# Altium schematic symbol library FMC_SDR_XFE.SCHLIB: 32 symbols
Pins are listed as number, name and electrical type; pins without a type are passive.

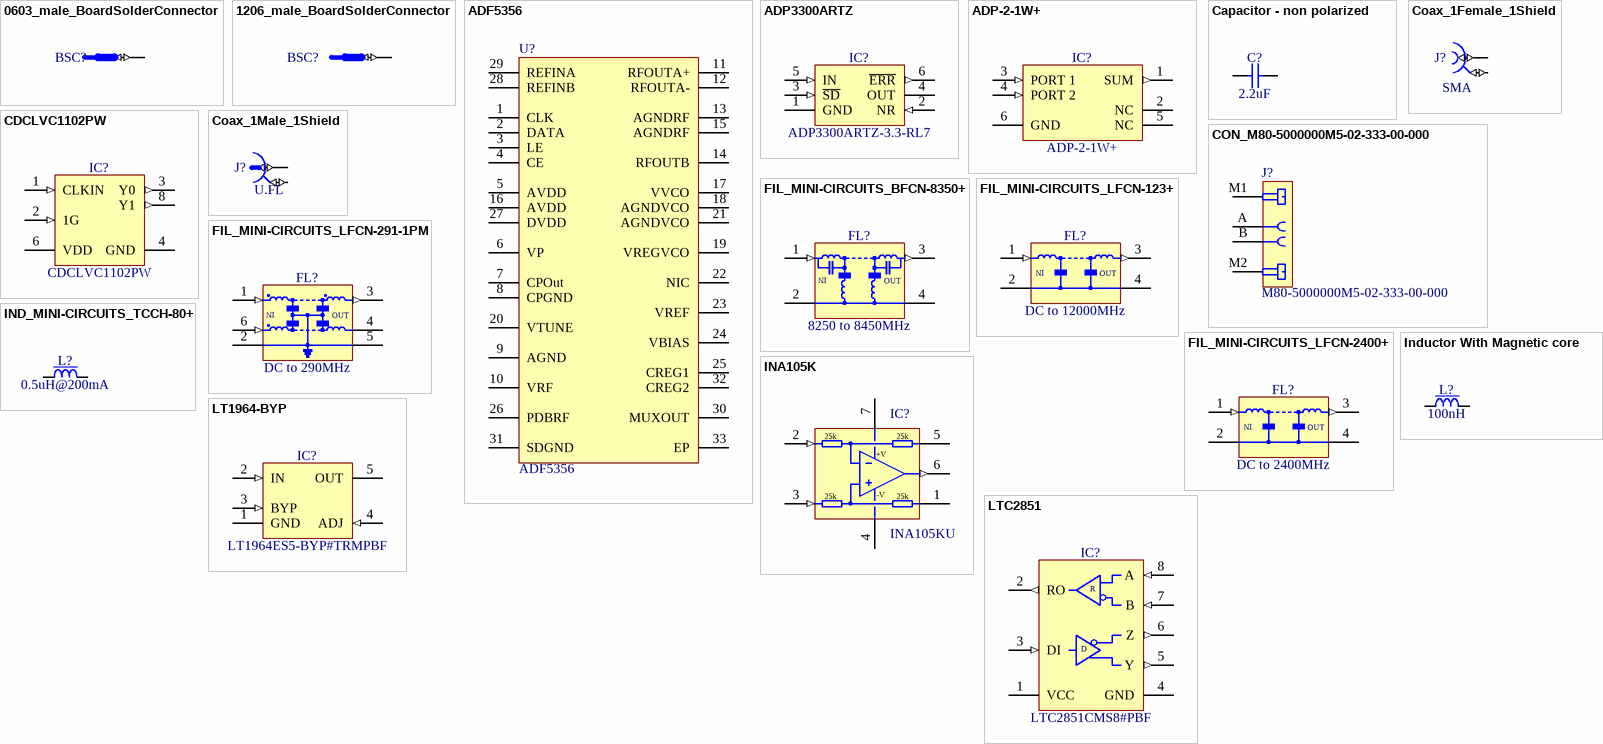
[diagram p0: symbols 0603_male_BoardSolderConnector to LTC2851]

## 0603_male_BoardSolderConnector
designator BSC?, comment 06031206 Male  (value not drawn)
Part Description: Board connection - soldered 0603 jumper; PressFit: No; System: Connector; Pin Count: 1; Socket: No; SMD: Yes; Sense: No; Status: None
footprint PCB_CONN_0603M (Colder connection between boards - by 0603 0R jumper)
pins: 1 (io)

## 1206_male_BoardSolderConnector
designator BSC?, comment 1206 Male  (value not drawn)
Part Description: Board connection - soldered 1206 jumper; PressFit: No; System: Connector; Pin Count: 1; Socket: No; SMD: Yes; Sense: No; Status: None
footprint PCB_CONN_1206M (Colder connection between boards - by 1206 0R jumper)
pins: 1 (io)

## ADF5356
designator U?
footprint ADF3356 (QFN, 32-Leads, Body 5,00x5,00mm, Pitch 0,50mm, Thermal Pad 3,65x3,65mm, IPC Low Density)
pins: 1 CLK, 2 DATA, 3 LE, 4 CE, 5 AVDD, 6 VP, 7 CPOut, 8 CPGND, 9 AGND, 10 VRF, 11 RFOUTA+, 12 RFOUTA-, 13 AGNDRF, 14 RFOUTB, 15 AGNDRF, 16 AVDD, 17 VVCO, 18 AGNDVCO, 19 VREGVCO, 20 VTUNE, 21 AGNDVCO, 22 NIC, 23 VREF, 24 VBIAS, 25 CREG1, 26 PDBRF, 27 DVDD, 28 REFINB, 29 REFINA, 30 MUXOUT, 31 SDGND, 32 CREG2, 33 EP

## ADP3300ARTZ
designator IC?, comment ADP3300ARTZ-3.3-RL7
High Accuracy anyCAP® 50 mA Low Dropout Linear Regulator; Part Description: 3.3V High Accuracy anyCAP® 50 Ma Low Dropout Linear Regulator; Manufacturer: ANALOG DEVICES; PressFit: No; Bonding: No; Part Number: ADP3300ARTZ-3.3-RL7; Component Kind: Standard; Component Type: Standard; Device: ADP3300ARTZ-3.3-RL7; Footprint: SOT95P280X145-6N; PackageDescription: SOT23, 0.95mm pitch; 6 pin, 1.6mm W X 2.9mm L X 1.45mm H body, IPC Medium Density; Manufacturer Part Number: ADP3300ARTZ-3.3-RL7; Pin Count: 6; Case: SOT23-6; Mounted: Yes; Socket: No; SMD: Yes; Sense: No; ComponentHeight: 1.45mm; HelpURL: \\cern.ch\dfs\Applications\Altium\Datasheets\ADP3300ARTZ-3.3-RL7.pdf; Author: CERN DEM JLC; CreateDate: 30.11.2011; LatestRevisionDate: 30.11.2011
footprint SOT95P280X145-6N
pins: 1 GND (power), 2 NR (in), 3 ~{SD} (in), 4 OUT (power), 5 IN (in), 6 ~{ERR} (out)

## ADP-2-1W+
designator IC?
2 Way-0° 50 OHM 1 to 650MHz Power Splitter/Combiner; Part Description: 2 Way-0°, 50 Ohms, 1 to 650MHz, Power Splitter/Combiner; Manufacturer: MINI-CIRCUITS; PressFit: No; Bonding: No; Part Number: ADP-2-1W+; Component Kind: Standard; Component Type: Standard; Device: ADP-2-1W+; Footprint: MINI-CIRCUITS_CD636; PackageDescription: MINI-CIRCUITS CD636 Case, 2.54mm pitch; 6 pin, 5.59mm W X 7.87mm L; Manufacturer Part Number: ADP-2-1W+; Pin Count: 6; Mounted: Yes; Socket: No; SMD: Yes; Sense: No; ComponentHeight: 4.11mm; Author: CERN DEM JLC; HelpURL: \\cern.ch\dfs\Applications\Altium\Datasheets\ADP-2-1W+.pdf; CreateDate: 17.07.2014; LatestRevisionDate: 17.07.2014
footprint MINI-CIRCUITS_CD636
pins: 1 SUM (out), 2 NC, 3 PORT 1 (in), 4 PORT 2 (in), 5 NC, 6 GND (power)

## Capacitor - non polarized
designator C?, comment 2.2uF
Non-polarised capacitor; Part Number: CC1206_2.2UF_50V_10%_X7R; Part Description: SMD Multilayer Chip Ceramic Capacitor; Manufacturer: GENERIC; Manufacturer1 Part Number: C1206C225K5RACTU; Voltage: 50V; TC: X7R; Tolerance: ±10%; Component Kind: Standard; Component Type: Standard; Footprint: CAPC3216X180N; Pin Count: 2; Value: 2.2uF; Status: Preferred; Manufacturer Part Number: CC1206_2.2uF_50V_10%_X7R; Case: 1206; Mounted: Yes; Socket: No; SMD: Yes; Sense: No; Manufacturer1 Example: KEMET; Manufacturer1 ComponentHeight: 1.8mm; HelpURL: \\cern.ch\dfs\Applications\Altium\Datasheets\CC1206_X7R_KEMET.pdf; Author: CERN DEM MR; CreateDate: 06.06.2016; LatestRevisionDate: 06.06.2016
footprint CAPC3216X180N
pins: 1, 2

## CDCLVC1102PW
designator IC?
3.3 V and 2.5 V LVCMOS 1:2  High-Performance Clock Buffer; Manufacturer: TEXAS INSTRUMENTS; PressFit: No; Bonding: No; Part Number: CDCLVC1102PW; Component Kind: Standard; Component Type: Standard; Device: CDCLVC1102PW; Footprint: SOP65P640X120-8N; PackageDescription: SOP, 0.65mm pitch; 8 pin, 4.40mm W X 3.00mm L X 1.20mm H body, IPC Medium Density; Part Description: 3.3 V and 2.5 V LVCMOS 1:2 High-Performance Clock Buffer; Manufacturer Part Number: CDCLVC1102PW; Pin Count: 8; Case: TSSOP8; Mounted: Yes; Socket: No; SMD: Yes; Sense: No; ComponentHeight: 1.2mm; HelpURL: \\cern.ch\dfs\Applications\Altium\Datasheets\CDCLVC1102PW.pdf; Author: CERN DEM JLC; CreateDate: 28.02.2011; LatestRevisionDate: 28.02.2011
footprint SOP65P640X120-8N
pins: 1 CLKIN (in), 2 1G (in), 3 Y0 (out), 4 GND (power), 6 VDD (power), 8 Y1 (out)

## Coax_1Female_1Shield
designator J?, comment SMA
Part Number: TELEGARTNER_J01151A0451; Part Description: SMA 50 ohms Edge Mount Bulkhead Jack Receptacle; Manufacturer: TELEGARTNER; Manufacturer Part Number: J01151A0451; PressFit: No; Component Kind: Standard; Component Type: Standard; Footprint: TELEGARTNER_J01151A0451; Pin Count: 2; Family: SMA; Mounted: Yes; Socket: No; SMD: No; Sense: No; Status: None; ComponentHeight: 7mm; HelpURL: \\cern.ch\dfs\Applications\Altium\Datasheets\TELEGARTNER_J01151A0451.pdf; Author: CERN DEM JLC; CreateDate: 27/10/2016; LatestRevisionDate: 27/10/2016
footprint TELEGARTNER_J01151A0451
pins: 1 (io), 2 (io)

## Coax_1Male_1Shield
designator J?, comment U.FL
Part Number: HIROSE_U.FL-R-SMT-1(10); Part Description: Up to 6GHz Ultra Small Surface Mount Male Coaxial Connectors U.FL Series; Manufacturer: HIROSE (HRS); Manufacturer Part Number: U.FL-R-SMT-1(10); PressFit: No; Component Kind: Standard; Component Type: Standard; Footprint: HIROSE_U.FL-R-SMT-1(10); Pin Count: 2; Family: U.FL; Mounted: Yes; Socket: No; SMD: Yes; Sense: No; Status: None; ComponentHeight: 1.25mm; HelpURL: \\cern.ch\dfs\Applications\Altium\Datasheets\HIROSE_U.FL-R-SMT-1(10).pdf; Author: CERN DEM JLC; CreateDate: 24.03.2010; LatestRevisionDate: 24.03.2010
footprint HIROSE_U.FL-R-SMT-1(10)
pins: 1 (io), 2 (io)

## CON_M80-5000000M5-02-333-00-000
designator J?, comment M80-5000000M5-02-333-00-000
2pin (2 power), THT socket with M2 jackscrews; Manufacturer: Harwin; Part Number: M80-5L10405M5-02-333-00-000; Bonding: No; ComponentHeigth: 6.05mm; PressFit: No; Case: M80-5000000M5-02-333-00-000; Component Kind: Standard; Component Type: Standard; CreateDate: 2018-06-18; Device: M80-5000000M5-02-333-00-000; Footprint: M80-5000000M5-02-333-00-000; HelpURL: https://www.harwin.com/products/M80-5000000M5-02-333-00-000/; LatestRevisionDate: 2018-06-18; Manufacturer Part Number: M80-5000000M5-02-333-00-000; Mounted: Yes; PackageDescription: H=6.05mm, W=18mm, D=8.6mm; Part Description: 2pin (2 power), THT socket with M2 jackscrews; Pin Count: 6; Sense: No; SMD: No; Socket: No; Value: *
footprint M80-5000000M5-02-333-00-000 (2pin (2 power), THT socket with M2 jackscrews (H=6.05mm, W=18mm, D=8.6mm))
footprint M80-5000000M5-02-333-00-000 (2pin (2 power), THT socket with M2 jackscrews (H=6.05mm, W=18mm, D=8.6mm))
pins: A, B, M1, M2

## FIL_MINI-CIRCUITS_BFCN-8350+
designator FL?, comment 8250 to 8450MHz
50 Ohm 8250 to 8450MHz Band Pass Filter; Part Number: FIL_MINI-CIRCUITS_BFCN-8350+; Part Description: 50 Ohm Band Pass Filter; Manufacturer: MINI-CIRCUITS; Manufacturer Part Number: BFCN-8350+; Component Kind: Standard; Component Type: Standard; Footprint: FIL_MINI-CIRCUITS_FV1206-4; Pin Count: 4; Value: 8250 to 8450MHz; Status: None; Mounted: Yes; Socket: No; SMD: Yes; Sense: No; ComponentHeight: 1.04mm; HelpURL: \\cern.ch\dfs\Applications\Altium\Datasheets\FIL_MINI-CIRCUITS_BFCN-8350+.pdf; Author: CERN DEM MR; CreateDate: 05.04.2019; LatestRevisionDate: 05.04.2019
footprint FIL_MINI-CIRCUITS_FV1206-4
pins: 1 RFIN (in), 2 GND (power), 3 RFOUT (out), 4 GND (power)
text: IN; OUT

## FIL_MINI-CIRCUITS_LFCN-123+
designator FL?, comment DC to 12000MHz
50 Ohm DC to 12000MHz Low Pass Filter; Part Number: FIL_MINI-CIRCUITS_LFCN-123+; Part Description: 50 Ohm Low Pass Filter; Manufacturer: MINI-CIRCUITS; Manufacturer Part Number: LFCN-123+; Component Kind: Standard; Component Type: Standard; Footprint: FIL_MINI-CIRCUITS_FV1206-4; Pin Count: 2; Value: DC to 12000MHz; Status: None; Mounted: Yes; Socket: No; SMD: Yes; Sense: No; ComponentHeight: 1.04mm; HelpURL: \\cern.ch\dfs\Applications\Altium\Datasheets\FIL_MINI-CIRCUITS_LFCN-123+.pdf; Author: CERN DEM JLC; CreateDate: 20.04.2015; LatestRevisionDate: 20.04.2015
footprint FIL_MINI-CIRCUITS_FV1206-4
pins: 1 RFIN (in), 2 GND (power), 3 RFOUT (out), 4 GND (power)
text: IN; OUT

## FIL_MINI-CIRCUITS_LFCN-291-1PM
designator FL?, comment DC to 290MHz
50 Ohm DC to 290MHz Dual Low Pass Filter; Part Number: FIL_MINI-CIRCUITS_LFCN-291-1PM+; Part Description: 50 Ohm Dual Low Pass Filter; Manufacturer: MINI-CIRCUITS; Manufacturer Part Number: LFCN-291-1PM+; Component Kind: Standard; Component Type: Standard; Footprint: FIL_MINI-CIRCUITS_FV1206-1; Pin Count: 2; Value: DC to 290MHz; Status: None; Mounted: Yes; Socket: No; SMD: Yes; Sense: No; ComponentHeight: 0.89mm; HelpURL: \\cern.ch\dfs\Applications\Altium\Datasheets\FIL_MINI-CIRCUITS_LFCN-291-1PM+.pdf; Author: CERN DEM JLC; CreateDate: 29.03.2018; LatestRevisionDate: 29.03.2018
footprint FIL_MINI-CIRCUITS_FV1206-1
pins: 1 RFIN (in), 2 GND (power), 3 RFOUT (out), 4 GND (power), 5 GND (power), 6 RFIN (in)
text: IN; OUT

## FIL_MINI-CIRCUITS_LFCN-2400+
designator FL?, comment DC to 2400MHz
50 Ohm DC to 2400MHz Low Pass Filter; Part Number: FIL_MINI-CIRCUITS_LFCN-2400+; Part Description: 50 Ohm Low Pass Filter; Manufacturer: MINI-CIRCUITS; Manufacturer Part Number: LFCN-2400+; Component Kind: Standard; Component Type: Standard; Footprint: FIL_MINI-CIRCUITS_FV1206; Pin Count: 4; Value: DC to 2400MHz; Status: None; Mounted: Yes; Socket: No; SMD: Yes; Sense: No; ComponentHeight: 0.94mm; HelpURL: \\cern.ch\dfs\Applications\Altium\Datasheets\FIL_MINI-CIRCUITS_LFCN-2400+.pdf; Author: CERN DEM MR; CreateDate: 05.04.2019; LatestRevisionDate: 05.04.2019
footprint FIL_MINI-CIRCUITS_FV1206
pins: 1 RFIN (in), 2 GND (power), 3 RFOUT (out), 4 GND (power)
text: IN; OUT

## INA105K
designator IC?, comment INA105KU
Precision, Unity-Gain Differential Amplifier; Manufacturer: TEXAS INSTRUMENTS; PressFit: No; Bonding: No; Part Number: INA105KU; Component Kind: Standard; Component Type: Standard; Device: INA105KU; Footprint: SOIC127P600X175-8N; PackageDescription: SOIC 8, Pitch 1.27mm, Body 4x5mm, IPC Medium Density; Part Description: Precision, Unity-Gain Differential Amplifier; Manufacturer Part Number: INA105KU; Pin Count: 7; Case: SOIC8; Mounted: Yes; Socket: No; SMD: Yes; Sense: No; ComponentHeight: 1.75mm; Author: CERN DEM JLC; HelpURL: \\cern.ch\dfs\Applications\Altium\Datasheets\INA105KU.pdf; CreateDate: 07.01.2008; LatestRevisionDate: 07.01.2008
footprint SOIC127P600X175-8N
pins: 1 REF, 2 IN- (in), 3 IN+ (in), 4 -VEE (power), 5 SENS, 6 OUT (out), 7 +VCC (power)
1 alternate drawing of the same symbol
text: 25k; +V; -V

## IND_MINI-CIRCUITS_TCCH-80+
designator L?, comment 0.5uH@200mA
50 Ohms, 50 to 8200 MHz RF Choke; Part Number: IND_MINI-CIRCUITS_TCCH-80+; Manufacturer: MINI-CIRCUITS; Manufacturer Part Number: TCCH-80+; Power: 200mA; Resistance: 0.1R; Component Kind: Standard; Component Type: Standard; Footprint: IND_MINI-CIRCUITS_GU1604; Pin Count: 4; Value: 0.5uH@200mA; Status: None; Part Description: 50 Ohms, 50 to 8200 MHz RF Choke; Mounted: Yes; Socket: No; SMD: Yes; Sense: No; ComponentHeight: 3.81mm; HelpURL: \\cern.ch\dfs\Applications\Altium\Datasheets\IND_MINI-CIRCUITS_TCCH-80+.pdf; Author: CERN DEM JLC; CreateDate: 19.12.2011; LatestRevisionDate: 19.12.2011
footprint IND_MINI-CIRCUITS_GU1604
pins: 1, 3

## Inductor With Magnetic core
designator L?, comment 100nH
Inductor With Core; Part Number: IND0603_100NH_2%_COILCRAFT_0603HP-R10XGLU; Part Description: Ceramic Chip Inductor; Manufacturer: COILCRAFT; Manufacturer Part Number: 0603HP-R10XGLU; Power: 470mA; Resistance: 0.54R; Tolerance: ±2%; Component Kind: Standard; Component Type: Standard; Footprint: IND_COILCRAFT_0603HP; Pin Count: 2; Value: 100nH; Status: None; Case: 0603; Mounted: Yes; Socket: No; SMD: Yes; Sense: No; ComponentHeight: 0.94mm; HelpURL: \\cern.ch\dfs\Applications\Altium\Datasheets\IND0603_COILCRAFT_0603HP.pdf; Author: CERN DEM JLC; CreateDate: 09.02.2017; LatestRevisionDate: 09.02.2017
footprint IND_COILCRAFT_0603HP
pins: 1, 2

## LT1964-BYP
designator IC?, comment LT1964ES5-BYP#TRMPBF
200mA, Low Noise, Low Dropout Negative Micropower Regulator; Part Description: -1.22V to -20V, 200mA, Low Noise, Low Dropout Negative Micropower Regulator; Manufacturer: LINEAR TECHNOLOGY; PressFit: No; Bonding: No; Part Number: LT1964ES5-BYP#TRMPBF; Component Kind: Standard; Component Type: Standard; Device: LT1964ES5-BYP#TRMPBF; Footprint: SOT95P280X100-5N; PackageDescription: SOT23, 0.95mm pitch; 5 pin, 1.75mm W X 3.00mm L, IPC Medium Density; Manufacturer Part Number: LT1964ES5-BYP#TRMPBF; Pin Count: 5; Case: SOT23-5; Mounted: Yes; Socket: No; SMD: Yes; Sense: No; ComponentHeight: 1mm; HelpURL: \\cern.ch\dfs\Applications\Altium\Datasheets\LT1964ES5-BYP#TRMPBF.pdf; Author: CERN DEM MR; CreateDate: 17.02.2016; LatestRevisionDate: 17.02.2016
footprint SOT95P280X100-5N
pins: 1 GND (power), 2 IN (in), 3 BYP (in), 4 ADJ (in), 5 OUT (power)

## LTC2851
designator IC?, comment LTC2851CMS8#PBF
3.3V 20Mbps RS485/RS422 Transceivers; Manufacturer: LINEAR TECHNOLOGY; PressFit: No; Bonding: No; Part Number: LTC2851CMS8#PBF; Component Kind: Standard; Component Type: Standard; Device: LTC2851CMS8#PBF; Footprint: SOP65P490X110-8N; PackageDescription: SOP, 0.65mm pitch; 8 pin, 3.00mm W X 3.00mm L X 1.10mm H body, IPC Medium Density; Part Description: 3.3V 20Mbps RS485/RS422 Transceivers; Manufacturer Part Number: LTC2851CMS8#PBF; Pin Count: 8; Case: MSOP8; Mounted: Yes; Socket: No; SMD: Yes; Sense: No; ComponentHeight: 1.1mm; HelpURL: \\cern.ch\dfs\Applications\Altium\Datasheets\LTC2851CMS8#PBF.pdf; Author: CERN DEM JLC; CreateDate: 14.12.2010; LatestRevisionDate: 14.12.2010
footprint SOP65P490X110-8N
pins: 1 VCC (power), 2 RO (out), 3 DI (in), 4 GND (power), 5 Y (out), 6 Z (out), 7 B (in), 8 A (in)
text: R; D

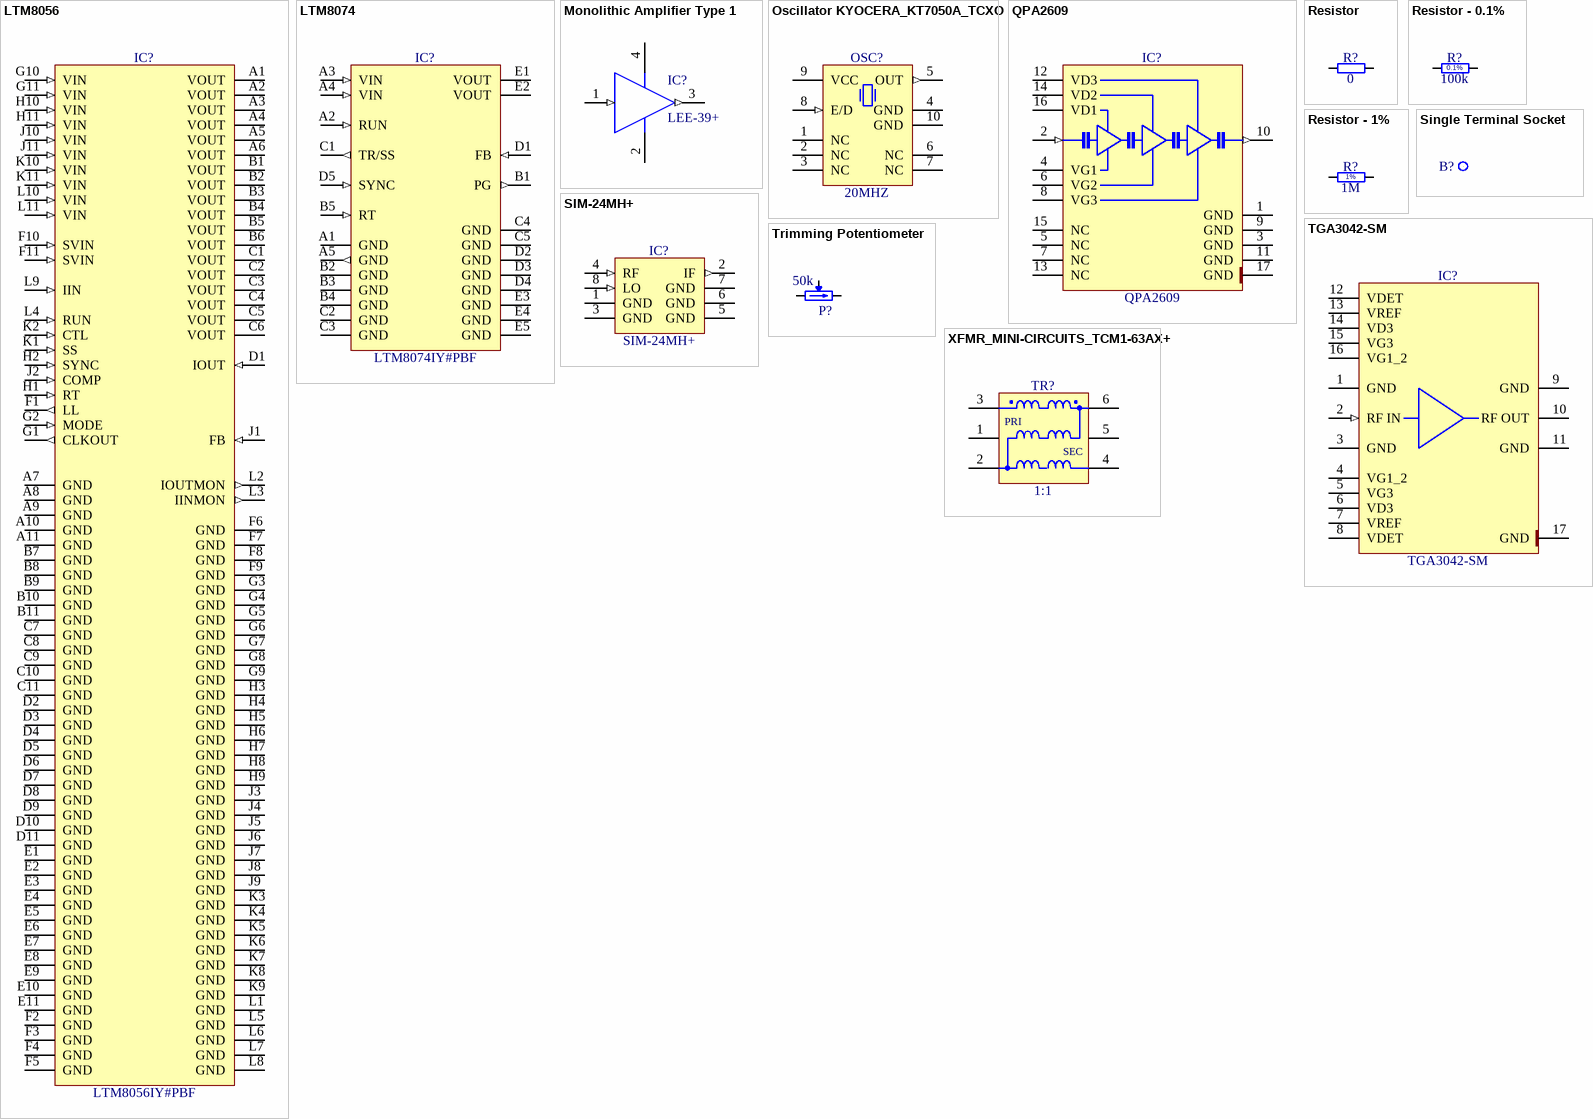
[diagram p1: symbols LTM8056 to XFMR_MINI-CIRCUITS_TCM1-63AX+]

## LTM8056
designator IC?, comment LTM8056IY#PBF
58VIN, 48VOUT Buck-Boost µModule Regulator; Manufacturer: LINEAR TECHNOLOGY; PressFit: No; Bonding: No; Part Number: LTM8056IY#PBF; Component Kind: Standard; Component Type: Standard; Device: LTM8056IY#PBF; Footprint: BGA121C127P11X11_1500X1500X512; PackageDescription: BGA,1.27mm Pitch, Square;121 Pin, 11 Columns X 11 Rows, 15.00mm X 15.00mm X 5.12mm H; Part Description: 58VIN, 48VOUT Buck-Boost µModule Regulator; Manufacturer Part Number: LTM8056IY#PBF; Pin Count: 121; Case: BGA121; Mounted: Yes; Socket: No; SMD: Yes; Sense: No; ComponentHeight: 5.12mm; HelpURL: \\cern.ch\dfs\Applications\Altium\Datasheets\LTM8056IY#PBF.pdf; Author: CERN DEM JLC; CreateDate: 08.04.2019; LatestRevisionDate: 08.04.2019
footprint BGA121C127P11X11_1500X1500X512
pins: A1 VOUT (power), A2 VOUT (power), A3 VOUT (power), A4 VOUT (power), A5 VOUT (power), A6 VOUT (power), A7 GND (power), A8 GND (power), A9 GND (power), A10 GND (power), A11 GND (power), B1 VOUT (power), B2 VOUT (power), B3 VOUT (power), B4 VOUT (power), B5 VOUT (power), B6 VOUT (power), B7 GND (power), B8 GND (power), B9 GND (power), B10 GND (power), B11 GND (power), C1 VOUT (power), C2 VOUT (power), C3 VOUT (power), C4 VOUT (power), C5 VOUT (power), C6 VOUT (power), C7 GND (power), C8 GND (power), C9 GND (power), C10 GND (power), C11 GND (power), D1 IOUT (in), D2 GND (power), D3 GND (power), D4 GND (power), D5 GND (power), D6 GND (power), D7 GND (power), D8 GND (power), D9 GND (power), D10 GND (power), D11 GND (power), E1 GND (power), E2 GND (power), E3 GND (power), E4 GND (power), E5 GND (power), E6 GND (power), E7 GND (power), E8 GND (power), E9 GND (power), E10 GND (power), E11 GND (power), F1 LL (out), F2 GND (power), F3 GND (power), F4 GND (power), F5 GND (power), F6 GND (power), F7 GND (power), F8 GND (power), F9 GND (power), F10 SVIN (in), F11 SVIN (in), G1 CLKOUT (out), G2 MODE (in), G3 GND (power), G4 GND (power), G5 GND (power), G6 GND (power), G7 GND (power), G8 GND (power), G9 GND (power), G10 VIN (in), G11 VIN (in), H1 RT (in), H2 SYNC (in), H3 GND (power), H4 GND (power), H5 GND (power), H6 GND (power), H7 GND (power), H8 GND (power), H9 GND (power), H10 VIN (in), H11 VIN (in), J1 FB (in), J2 COMP (in), J3 GND (power), J4 GND (power), J5 GND (power), J6 GND (power), J7 GND (power), J8 GND (power), J9 GND (power), J10 VIN (in), J11 VIN (in), K1 SS (in), K2 CTL (in), K3 GND (power), K4 GND (power), K5 GND (power), K6 GND (power), K7 GND (power), K8 GND (power), K9 GND (power), K10 VIN (in), K11 VIN (in), L1 GND (power), L2 IOUTMON (out), L3 IINMON (out), L4 RUN (in), L5 GND (power), L6 GND (power), L7 GND (power), L8 GND (power), L9 IIN (in), L10 VIN (in), L11 VIN (in)

## LTM8074
designator IC?, comment LTM8074IY#PBF
40VIN, 1.2A Silent Switcher µModule Regulator; Manufacturer: LINEAR TECHNOLOGY; PressFit: No; Bonding: No; Part Number: LTM8074IY#PBF; Component Kind: Standard; Component Type: Standard; Device: LTM8074IY#PBF; Footprint: BGA25C65P5X5_400X400X198; PackageDescription: BGA, 0.65mm Pitch, Square; 25 Pin, 5 Columns X 5 Rows, 4.00mm X 4.00mm X 1.98mm H; Part Description: 40VIN, 1.2A Silent Switcher µModule Regulator; Manufacturer Part Number: LTM8074IY#PBF; Pin Count: 25; Case: BGA25; Mounted: Yes; Socket: No; SMD: Yes; Sense: No; ComponentHeight: 1.98mm; HelpURL: \\cern.ch\dfs\Applications\Altium\Datasheets\LTM8074IY#PBF.pdf; Author: CERN DEM JLC; CreateDate: 08.04.2019; LatestRevisionDate: 08.04.2019
footprint BGA25C65P5X5_400X400X198
pins: A1 GND (power), A2 RUN (in), A3 VIN (in), A4 VIN (in), A5 GND (out), B1 PG (out), B2 GND (power), B3 GND (power), B4 GND (power), B5 RT (in), C1 TR/SS (out), C2 GND (power), C3 GND (power), C4 GND (power), C5 GND (power), D1 FB (in), D2 GND (power), D3 GND (power), D4 GND (power), D5 SYNC (in), E1 VOUT (power), E2 VOUT (power), E3 GND (power), E4 GND (power), E5 GND (power)

## Monolithic Amplifier Type 1
designator IC?, comment LEE-39+
Monolithic Amplifier; Part Description: DC-8GHz Monolithic Amplifier; Manufacturer: MINI-CIRCUITS; PressFit: No; Bonding: No; Part Number: LEE-39+; Component Kind: Standard; Component Type: Standard; Device: LEE-39+; Footprint: MINI-CIRCUITS_FG873; PackageDescription: MINI-CIRCUITS FG873 Case, 4 pin, 3.0mm W X 3.0mm L; Manufacturer Part Number: LEE-39+; Pin Count: 4; Mounted: Yes; Socket: No; SMD: Yes; Sense: No; ComponentHeight: 0.89mm; Author: CERN DEM JLC; HelpURL: \\cern.ch\dfs\Applications\Altium\Datasheets\LEE-39+.pdf; ComponentLink1URL: \\cern.ch\dfs\Applications\Altium\Datasheets\LEE-39+_Package-Drawing.pdf; ComponentLink1Description: Package Drawing; CreateDate: 17.01.2017; LatestRevisionDate: 17.01.2017
footprint MINI-CIRCUITS_FG873
pins: 1 RF IN (in), 2 GND (power), 3 RF OUT (out), 4 GND (power)

## Oscillator KYOCERA_KT7050A_TCXO
designator OSC?, comment 20MHZ
Oscillator KYOCERA; Part Number: OSC_20MHZ_KYOCERA_KT7050A20000KAW33TAD; Part Description: 3.3V, ± 0.28ppm, -40°C ..+85°C, Temperature Compensated Crystal Oscillator (TCXO); Manufacturer Part Number: KT7050A20000KAW33TAD; PressFit: No; Bonding: No; Component Kind: Standard; Component Type: Standard; Footprint: OSC_KYOCERA_KT7050A; PackageDescription: Oscillator KT7050A Series, 10 pins, 5x7mm; Value: 20MHZ; Manufacturer: KYOCERA; Pin Count: 10; Mounted: Yes; Socket: No; SMD: Yes; Sense: No; ComponentHeight: 1.7mm; HelpURL: \\cern.ch\dfs\Applications\Altium\Datasheets\OSC_KYOCERA_KT7050.pdf; Author: CERN DEM MR; CreateDate: 01.12.2017; LatestRevisionDate: 01.12.2017
footprint OSC_KYOCERA_KT7050A
pins: 1 NC, 2 NC, 3 NC, 4 GND (power), 5 OUT (out), 6 NC, 7 NC, 8 E/D (in), 9 VCC (power), 10 GND (power)

## QPA2609
designator IC?
7-14GHz GaAs Low Noise Amplifier; Manufacturer: QORVO; PressFit: No; Bonding: No; Part Number: QPA2609; Component Kind: Standard; Component Type: Standard; Device: QPA2609; Footprint: QORVO_QPA2609; PackageDescription: QFN, 0.50mm Pitch, Square; 16 Pin, 4.00mm L X 4.00mm W X 0.9mm H Body (w/thermal Tab 2.75 X 2.75mm); Part Description: 7-14GHz GaAs Low Noise Amplifier; Manufacturer Part Number: QPA2609; Pin Count: 17; Case: QFN16; Mounted: Yes; Socket: No; SMD: Yes; Sense: No; ComponentHeight: 0.9mm; Author: CERN DEM JLC; HelpURL: \\cern.ch\dfs\Applications\Altium\Datasheets\QPA2609.pdf; CreateDate: 01.04.2019; LatestRevisionDate: 01.04.2019
footprint QORVO_QPA2609
pins: 1 GND (power), 2 RF IN (in), 3 GND (power), 4 VG1 (power), 5 NC, 6 VG2 (power), 7 NC (power), 8 VG3 (power), 9 GND (power), 10 RF OUT (out), 11 GND (power), 12 VD3 (power), 13 NC, 14 VD2 (power), 15 NC, 16 VD1 (power), 17 GND (power)

## Resistor
designator R?, comment 0
Resistor; Part Number: R0603_0R_JUMPER; Part Description: 1A (0.05R Max DC Resistance) Zero Ohm Jumper; Manufacturer: GENERIC; Manufacturer1 Part Number: NRC06Z0; PressFit: No; Component Kind: Standard; Component Type: Standard; Footprint: RESC1608X55N; Pin Count: 2; Value: 0; Status: Preferred; Manufacturer Part Number: R0603_0R_JUMPER; Case: 0603; Mounted: Yes; Sense: No; Socket: No; SMD: Yes; Manufacturer1 Example: NIC COMPONENT; Manufacturer1 ComponentHeight: 0.55mm; HelpURL: \\cern.ch\dfs\Applications\Altium\Datasheets\R0603_NIC_NRC.pdf; Author: CERN DEM JLC; CreateDate: 03.12.2007; LatestRevisionDate: 13.03.2008
footprint RESC1608X55N
pins: 1, 2

## Resistor - 0.1%
designator R?, comment 100k
Resistor - 0.1%; Part Number: R0603_100K_0.1%_0.063W_10PPM; Part Description: Thin Film Chip Resistor; Manufacturer: GENERIC; Manufacturer1 Part Number: RN73C1J100KBTDF; Power: 0.063W; TC: ±10ppm; PressFit: No; Component Kind: Standard; Component Type: Standard; Footprint: RESC1608X55N; Pin Count: 2; Value: 100k; Status: Not Recommended; Tolerance: ±0.1%; Manufacturer Part Number: R0603_100K_0.1%_0.063W_10PPM; Case: 0603; Mounted: Yes; Sense: No; Socket: No; SMD: Yes; Manufacturer1 Example: TYCO HOLSWORTHY; Manufacturer1 ComponentHeight: 0.55mm; HelpURL: \\cern.ch\dfs\Applications\Altium\Datasheets\R0603_Tyco_RN73.pdf; Author: CERN DEM JLC; CreateDate: 03.12.2007; LatestRevisionDate: 13.03.2008
footprint RESC1608X55N
pins: 1, 2
text: 0.1%

## Resistor - 1%
designator R?, comment 1M
Resistor - 1%; Part Number: R0402_1M_1%_0.0625W_100PPM; Part Description: General Purpose Thick Film Chip Resistor; Manufacturer: GENERIC; Manufacturer1 Part Number: 232270671005L; Power: 0.0625W; TC: ±100ppm/°C; PressFit: No; Component Kind: Standard; Component Type: Standard; Footprint: RESC1005X40N; Pin Count: 2; Value: 1M; Status: Not Recommended; Tolerance: ±1%; Manufacturer Part Number: R0402_1M_1%_0.0625W_100PPM; Case: 0402; Mounted: Yes; Sense: No; Socket: No; SMD: Yes; Manufacturer1 Example: YAGEO PHYCOMP; Manufacturer1 ComponentHeight: 0.4mm; HelpURL: \\cern.ch\dfs\Applications\Altium\Datasheets\R0402_Phycomp_RC0402.pdf; Author: CERN DEM JLC; CreateDate: 03.12.2007; LatestRevisionDate: 17.10.2012
footprint RESC1005X40N
pins: 1, 2
text: 1%

## SIM-24MH+
designator IC?
Frequency Mixer - Level 13 (LO Power +13 dBm) 7300 to 20000 MHz; Manufacturer: MINI-CIRCUITS; PressFit: No; Bonding: No; Part Number: SIM-24MH+; Component Kind: Standard; Component Type: Standard; Device: SIM-24MH+; Footprint: MINI-CIRCUITS_HV1195; PackageDescription: MINI-CIRCUITS HV1195 Case, 1.27mm pitch; 8 pin, 4.57mm W X 5.08mm L; Part Description: Frequency Mixer - Level 13 (LO Power +13 dBm) 7300 to 20000MHz; Manufacturer Part Number: SIM-24MH+; Pin Count: 8; Mounted: Yes; Socket: No; SMD: Yes; Sense: No; ComponentHeight: 2.21mm; Author: CERN DEM JLC; HelpURL: \\cern.ch\dfs\Applications\Altium\Datasheets\SIM-24MH+.pdf; CreateDate: 29.10.2014; LatestRevisionDate: 29.10.2014
footprint MINI-CIRCUITS_HV1195
pins: 1 GND (power), 2 IF (out), 3 GND (power), 4 RF (in), 5 GND (power), 6 GND (power), 7 GND (power), 8 LO (in)

## Single Terminal Socket
designator B?, comment Plated Hole  (value not drawn)  (no BOM)
Single Terminal Socket; Part Number: PLATED_HOLE2.4_PAD4.0; Part Description: Plated Through Hole: Hole Dia.=2.4mm Pad Dia.=4.0mm; Mounted: No; Table: Pads; Component Type: Standard (No BOM); Footprint: MTG240_400; Pin Count: 1; Family: Plated Hole; Socket: No; SMD: No; Status: None; ComponentHeight: 0mm; Author: CERN DEM JMW; CreateDate: 2011-10-10; LatestRevisionDate: 2011-10-10; PackageDescription: Plated Through Hole: Hole Dia.=2.4mm Pad Dia.=4.0mm
footprint MTG240_400
pins: 1

## TGA3042-SM
designator IC?
7-10.5GHz 4.5W GaN Power Amplifier; Manufacturer: QORVO; PressFit: No; Bonding: No; Part Number: TGA3042-SM; Component Kind: Standard; Component Type: Standard; Device: TGA3042-SM; Footprint: QORVO_TGA3042-SM; PackageDescription: QFN, 0.566mm Pitch X, 0.525 Pitch Y, Square; 16 Pin, 4.5mm L X 4.5mm W X 1.74mm H Body; Part Description: 7-10.5GHz 4.5W GaN Power Amplifier; Manufacturer Part Number: TGA3042-SM; Pin Count: 17; Case: QFN16; Mounted: Yes; Socket: No; SMD: Yes; Sense: No; ComponentHeight: 1.91mm; Author: CERN DEM JLC; HelpURL: \\cern.ch\dfs\Applications\Altium\Datasheets\TGA3042-SM.pdf; CreateDate: 26.03.2019; LatestRevisionDate: 26.03.2019
footprint QORVO_TGA3042-SM
pins: 1 GND (power), 2 RF IN (in), 3 GND (power), 4 VG1_2 (power), 5 VG3 (power), 6 VD3 (power), 7 VREF (power), 8 VDET (power), 9 GND (power), 10 RF OUT (power), 11 GND (power), 12 VDET (power), 13 VREF (power), 14 VD3 (power), 15 VG3 (power), 16 VG1_2 (power), 17 GND (power)

## Trimming Potentiometer
designator P?, comment 50k
Trimming Potentiometer; Part Number: TRIM_11T_50K_BOURNS_3223W-1-503E; Part Description: 11 Turns SMD Trimpot® Trimming Potentiometer (Top Adjust); Manufacturer: BOURNS; Manufacturer Part Number: 3223W-1-503E; Power: 0.125W; TC: ±100ppm/°C; Tolerance: ±20%; PressFit: No; Component Kind: Standard; Component Type: Standard; Footprint: TRIM_BOURNS_3223W; Pin Count: 3; Value: 50k; Case: 3223W; Mounted: Yes; Socket: No; SMD: Yes; Sense: No; ComponentHeight: 4.16mm; HelpURL: \\cern.ch\dfs\Applications\Altium\Datasheets\TRIM_BOURNS_3223W.pdf; Author: CERN DEM JLC; CreateDate: 31.03.2011; LatestRevisionDate: 18.12.2012
footprint TRIM_BOURNS_3223W
pins: 1 CCW, 2 W, 3 CW

## XFMR_MINI-CIRCUITS_TCM1-63AX+
designator TR?, comment 1:1
50 Ohms 10  to 6000MHz RF Transformer; Part Number: XFMR_MINI-CIRCUITS_TCM1-63AX+; Manufacturer: MINI-CIRCUITS; Manufacturer Part Number: TCM1-63AX+; Power: 0.2W; Component Kind: Standard; Component Type: Standard; Footprint: XFMR_MINI-CIRCUITS_DB1627; Pin Count: 6; Value: 1:1; Status: None; Part Description: 50 Ohms 10  to 6000MHz RF Transformer; Mounted: Yes; Socket: No; Sense: No; SMD: Yes; ComponentHeight: 4.06mm; HelpURL: \\cern.ch\dfs\Applications\Altium\Datasheets\XFMR_MINI-CIRCUITS_TCM1-63AX+.pdf; Author: CERN DEM MR; CreateDate: 08.02.2019; LatestRevisionDate: 08.02.2019
footprint XFMR_MINI-CIRCUITS_DB1627
pins: 1 NC, 2 P1, 3 P1, 4 S1, 5 NC, 6 S1
text: PRI; SEC